# EAGLE library part MICRO:BIT (library Deegou_Connector)
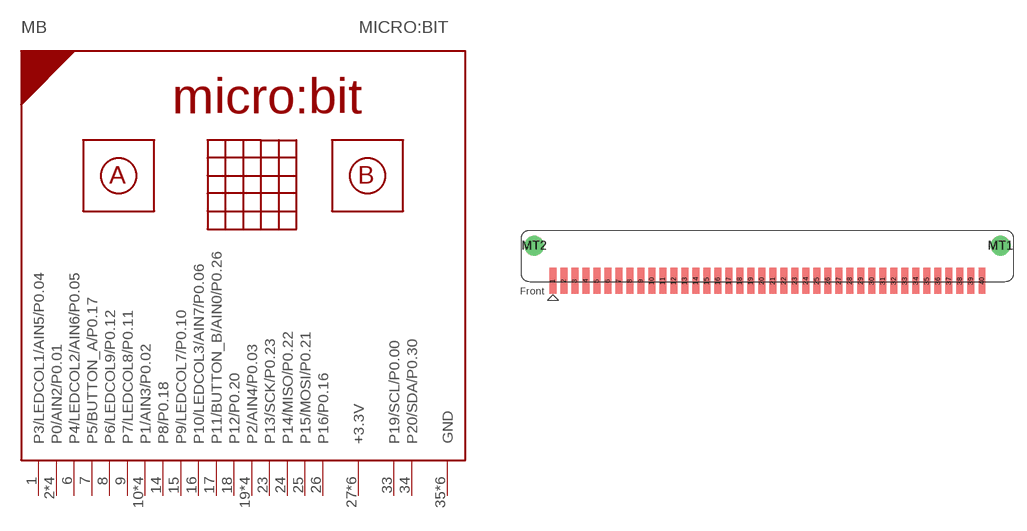
[diagram p41: symbol with the pads of MICROBIT_SIMPLE_V; footprint MICROBIT_SIMPLE_V]

Designator prefix MB

## MICRO:BIT_SIMPLE_V  [MICROBIT_SIMPLE_V]
1  P3/LEDCOL1/AIN5/P0.04
2  P0/AIN2/P0.01
3  P0/AIN2/P0.01
4  P0/AIN2/P0.01
5  P0/AIN2/P0.01
6  P4/LEDCOL2/AIN6/P0.05
7  P5/BUTTON_A/P0.17
8  P6/LEDCOL9/P0.12
9  P7/LEDCOL8/P0.11
10  P1/AIN3/P0.02
11  P1/AIN3/P0.02
12  P1/AIN3/P0.02
13  P1/AIN3/P0.02
14  P8/P0.18
15  P9/LEDCOL7/P0.10
16  P10/LEDCOL3/AIN7/P0.06
17  P11/BUTTON_B/AIN0/P0.26
18  P12/P0.20
19  P2/AIN4/P0.03
20  P2/AIN4/P0.03
21  P2/AIN4/P0.03
22  P2/AIN4/P0.03
23  P13/SCK/P0.23
24  P14/MISO/P0.22
25  P15/MOSI/P0.21
26  P16/P0.16
27  +3.3V  pwr
28  +3.3V  pwr
29  +3.3V  pwr
30  +3.3V  pwr
31  +3.3V  pwr
32  +3.3V  pwr
33  P19/SCL/P0.00
34  P20/SDA/P0.30
35  GND  pwr
36  GND  pwr
37  GND  pwr
38  GND  pwr
39  GND  pwr
40  GND  pwr

## Footprint MICROBIT_SIMPLE_V (pad centres in mm)
smd 0.8 x 3: 1 -24.765,-2.88; 2 -23.495,-2.88; 3 -22.225,-2.88; 4 -20.955,-2.88; 5 -19.685,-2.88; 6 -18.415,-2.88; 7 -17.145,-2.88; 8 -15.875,-2.88; 9 -14.605,-2.88; 10 -13.335,-2.88; 11 -12.065,-2.88; 12 -10.795,-2.88; 13 -9.525,-2.88; 14 -8.255,-2.88; 15 -6.985,-2.88; 16 -5.715,-2.88; 17 -4.445,-2.88; 18 -3.175,-2.88; 19 -1.905,-2.88; 20 -0.635,-2.88; 21 0.635,-2.88; 22 1.905,-2.88; 23 3.175,-2.88; 24 4.445,-2.88; 25 5.715,-2.88; 26 6.985,-2.88; 27 8.255,-2.88; 28 9.525,-2.88; 29 10.795,-2.88; 30 12.065,-2.88; 31 13.335,-2.88; 32 14.605,-2.88; 33 15.875,-2.88; 34 17.145,-2.88; 35 18.415,-2.88; 36 19.685,-2.88; 37 20.955,-2.88; 38 22.225,-2.88; 39 23.495,-2.88; 40 24.765,-2.88
drill 1.1 pad 2.3: MT1 26.9,1.2; MT2 -26.9,1.2